# EAGLE library part SFW08R (library con-fci)
FPC Connector
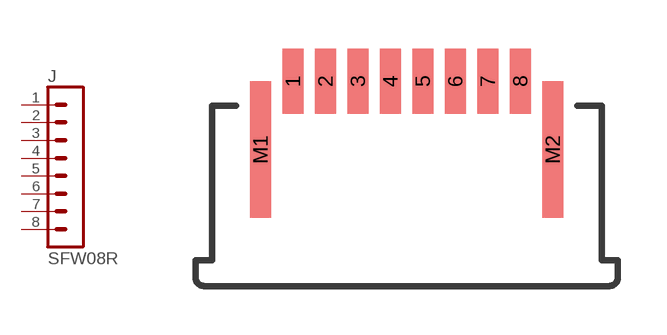
[diagram p1: symbol with the pads of SFW08R; footprint SFW08R]

Designator prefix J

## SFW08R  [SFW08R]
1  1  pas
2  2  pas
3  3  pas
4  4  pas
5  5  pas
6  6  pas
7  7  pas
8  8  pas

## Footprint SFW08R (pad centres in mm)
FFC/FPC - 1mm Right Angle, SMT Bottom Contact
smd 0.65 x 2: 1 -3.5,1; 2 -2.5,1; 3 -1.5,1; 4 -0.5,1; 5 0.5,1; 6 1.5,1; 7 2.5,1; 8 3.5,1
smd 0.65 x 4.2: M1 -4.5,-1.1; M2 4.5,-1.1